# Altium schematic symbol library UA78M05.Schlib: 1 symbol
Pins are listed as number, name and electrical type; pins without a type are passive.

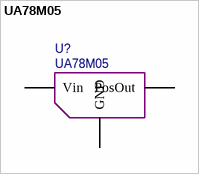
[diagram p0: symbol UA78M05]

## UA78M05
designator U?
pins: 1 Vin, 3 PosOut, 4 GND